# Altium integrated library TI Power Management Lighting and Display.IntLib: 745 symbols (part 46 of 48)
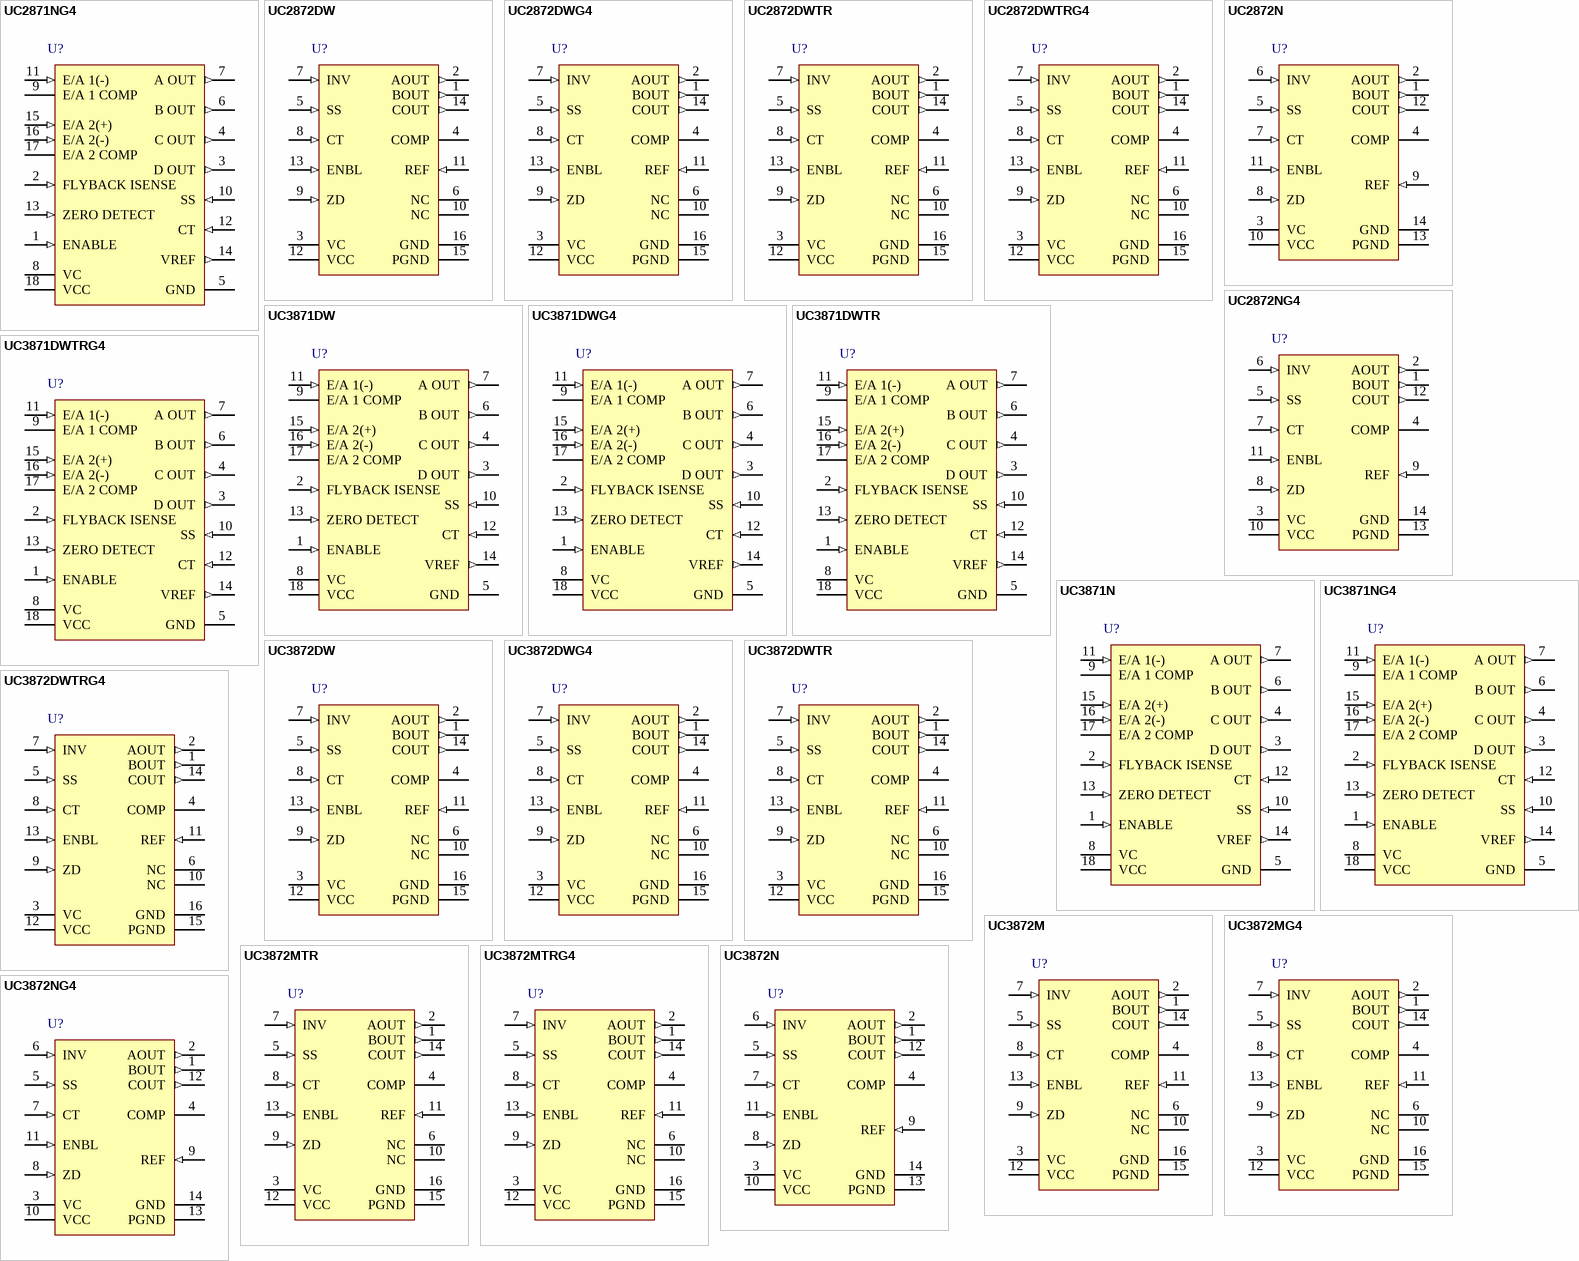
[diagram p76: symbols UC2871NG4 to UC3872NG4]

## UC3872M
designator U?
Resonant Lamp Ballast Controller, 4.5 to 24 V, 0 to 70 degC, 16-pin SOP (DBQ16), Green (RoHS & no Sb/Br); Manufacturer: Texas Instruments; PartNumber: UC3872M; Control Topology: Push-Pull; Frequency(Max)(kHz): 200; Open Lamp Detect: TRUE; Rating: Catalog; SubFamily: CCFL Backlight Converter; Vin(Max)(V): 24; Vin(Min)(V): 4.5; PackageVersion: 4073301-2/H; PackageReference: DBQ16; PackageDescription: 16-Lead, Plastic Small Outline, Body Size 3.9 x 4.9 mm, Pitch 0.635 mm; Supplier 1: Digi-Key; Supplier Part Number 1: 296-11329-5-ND; Supplier 2: Newark; Supplier Part Number 2: 77C3421; Supplier 3: Mouser; Supplier Part Number 3: 595-UC3872M; Eco-Plan: Green (RoHS & no Sb/Br); Mounting Technology: Surface Mount; Code_JEDEC: MO-137; ComponentLink1Description: Manufacturer URL; ComponentLink1URL: http://www.ti.com/; ComponentLink2Description: Datasheet; ComponentLink2URL: http://www.ti.com/general/docs/lit/getliterature.tsp?genericPartNumber=UC3872&fileType=pdf; ComponentLink3Description: Package Specification; ComponentLink3URL: http://www.ti.com/litv/pdf/msoi004g
footprint TI-DBQ16_N (SOP, 16-Leads, Body 4.9x3.9mm, Pitch 0.635mm, IPC Medium Density)
footprint TI-DBQ16_L (SOP, 16-Leads, Body 4.9x3.9mm, Pitch 0.635mm, IPC High Density)
footprint TI-DBQ16_M (SOP, 16-Leads, Body 4.9x3.9mm, Pitch 0.635mm, IPC Low Density)
pins: 1 BOUT (out) "These outputs provide complementary drive signals for the push-pull N-channel MOSFETs.Each one is high for 50% of the time, switching states each time a zero-detect is sensed.", 2 AOUT (out) "These outputs provide complementary drive signals for the push-pull N-channel MOSFETs.Each one is high for 50% of the time, switching states each time a zero-detect is sensed.", 3 VC (power) "VC is the power supply voltage connection for the output drivers. Bypass it to ground with a 0.1uF ceramic capacitor for proper operation.", 4 COMP "COMP is the output terminal of the error amplifier. Compensation components are normally connected between COMP and INV. Connecting a capacitor from this pin to ground limits turn on current and blanks the open lamp detect (See Datasheet)", 5 SS (in), 6 NC, 7 INV (in) "This pin is the inverting input to the error amplifier and the input for the open lamp detect circuitry. If the voltage at INV is below the 1V open lamp detect threshold,the outputs are disabled.", 8 CT (in) "A capacitor connected between this pin and GND ground sets the synchronization frequency range. The capacitor is charged with approximately 200uA, creating a linear ramp which is used by COUT’s (buck regulator driver) PWM (See Datasheet)", 9 ZD (in) "The zero-detect input senses when the transformer’s primary center tap voltage falls to zero to synchronize the sawtooth voltage waveform on CT. The threshold is approximately 0.5V, providing a small amount of offset such (See Datasheet)", 10 NC, 11 REF (in) "This pin is connected to the 3V reference voltage which is used for the internal logic. Bypass REF to ground with a 0.01uF ceramic capacitor for proper operation.", 12 VCC (power) "VCC is the positive supply voltage for the chip. Its operating range is from 4.2V to 24V. Bypass VCC to ground with a 0.1uF ceramic capacitor for proper operation.", 13 ENBL (in) "When ENBL is driven high the device is enabled.When ENBL is pulled low, the IC is shut down and typically draws 1uA.", 14 COUT (out) "This output directly drives the bulk regulator P-channel MOSFET. COUT turn-on is synchronized to each zero-detect, and therefore switches at twice the frequency of AOUT and BOUT. The modulator controlling COUT is designed to (See Datasheet)", 15 PGND (power) "This pin is the high current ground connection for the three output drivers.", 16 GND (power) "This pin is the ground reference point for the internal reference and all thresholds."

## UC3872MG4
designator U?
Resonant Lamp Ballast Controller, 4.5 to 24 V, 0 to 70 degC, 16-pin SOP (DBQ16), Green (RoHS & no Sb/Br); Manufacturer: Texas Instruments; PartNumber: UC3872MG4; Control Topology: Push-Pull; Frequency(Max)(kHz): 200; Open Lamp Detect: TRUE; Rating: Catalog; SubFamily: CCFL Backlight Converter; Vin(Max)(V): 24; Vin(Min)(V): 4.5; PackageVersion: 4073301-2/H; PackageReference: DBQ16; PackageDescription: 16-Lead, Plastic Small Outline, Body Size 3.9 x 4.9 mm, Pitch 0.635 mm; Supplier 1: Digi-Key; Supplier Part Number 1: UC3872MG4-ND; Supplier 2: Newark; Supplier Part Number 2: 28M7875; Supplier 3: Mouser; Supplier Part Number 3: 595-UC3872MG4; Eco-Plan: Green (RoHS & no Sb/Br); Mounting Technology: Surface Mount; Code_JEDEC: MO-137; ComponentLink1Description: Manufacturer URL; ComponentLink1URL: http://www.ti.com/; ComponentLink2Description: Datasheet; ComponentLink2URL: http://www.ti.com/general/docs/lit/getliterature.tsp?genericPartNumber=UC3872&fileType=pdf; ComponentLink3Description: Package Specification; ComponentLink3URL: http://www.ti.com/litv/pdf/msoi004g
footprint TI-DBQ16_N (SOP, 16-Leads, Body 4.9x3.9mm, Pitch 0.635mm, IPC Medium Density)
footprint TI-DBQ16_L (SOP, 16-Leads, Body 4.9x3.9mm, Pitch 0.635mm, IPC High Density)
footprint TI-DBQ16_M (SOP, 16-Leads, Body 4.9x3.9mm, Pitch 0.635mm, IPC Low Density)
pins: 1 BOUT (out) "These outputs provide complementary drive signals for the push-pull N-channel MOSFETs.Each one is high for 50% of the time, switching states each time a zero-detect is sensed.", 2 AOUT (out) "These outputs provide complementary drive signals for the push-pull N-channel MOSFETs.Each one is high for 50% of the time, switching states each time a zero-detect is sensed.", 3 VC (power) "VC is the power supply voltage connection for the output drivers. Bypass it to ground with a 0.1uF ceramic capacitor for proper operation.", 4 COMP "COMP is the output terminal of the error amplifier. Compensation components are normally connected between COMP and INV. Connecting a capacitor from this pin to ground limits turn on current and blanks the open lamp detect (See Datasheet)", 5 SS (in), 6 NC, 7 INV (in) "This pin is the inverting input to the error amplifier and the input for the open lamp detect circuitry. If the voltage at INV is below the 1V open lamp detect threshold,the outputs are disabled.", 8 CT (in) "A capacitor connected between this pin and GND ground sets the synchronization frequency range. The capacitor is charged with approximately 200uA, creating a linear ramp which is used by COUT’s (buck regulator driver) PWM (See Datasheet)", 9 ZD (in) "The zero-detect input senses when the transformer’s primary center tap voltage falls to zero to synchronize the sawtooth voltage waveform on CT. The threshold is approximately 0.5V, providing a small amount of offset such (See Datasheet)", 10 NC, 11 REF (in) "This pin is connected to the 3V reference voltage which is used for the internal logic. Bypass REF to ground with a 0.01uF ceramic capacitor for proper operation.", 12 VCC (power) "VCC is the positive supply voltage for the chip. Its operating range is from 4.2V to 24V. Bypass VCC to ground with a 0.1uF ceramic capacitor for proper operation.", 13 ENBL (in) "When ENBL is driven high the device is enabled.When ENBL is pulled low, the IC is shut down and typically draws 1uA.", 14 COUT (out) "This output directly drives the bulk regulator P-channel MOSFET. COUT turn-on is synchronized to each zero-detect, and therefore switches at twice the frequency of AOUT and BOUT. The modulator controlling COUT is designed to (See Datasheet)", 15 PGND (power) "This pin is the high current ground connection for the three output drivers.", 16 GND (power) "This pin is the ground reference point for the internal reference and all thresholds."

## UC3872MTR
designator U?
Resonant Lamp Ballast Controller, 4.5 to 24 V, 0 to 70 degC, 16-pin SOP (DBQ16), Green (RoHS & no Sb/Br); Manufacturer: Texas Instruments; PartNumber: UC3872MTR; Control Topology: Push-Pull; Frequency(Max)(kHz): 200; Open Lamp Detect: TRUE; Rating: Catalog; SubFamily: CCFL Backlight Converter; Vin(Max)(V): 24; Vin(Min)(V): 4.5; PackageVersion: 4073301-2/H; PackageReference: DBQ16; PackageDescription: 16-Lead, Plastic Small Outline, Body Size 3.9 x 4.9 mm, Pitch 0.635 mm; Supplier 1: Digi-Key; Supplier Part Number 1: UC3872MTR-ND; Supplier 2: Newark; Supplier Part Number 2: 77C3422; Supplier 3: Mouser; Supplier Part Number 3: 595-UC3872MTR; Eco-Plan: Green (RoHS & no Sb/Br); Mounting Technology: Surface Mount; Code_JEDEC: MO-137; ComponentLink1Description: Manufacturer URL; ComponentLink1URL: http://www.ti.com/; ComponentLink2Description: Datasheet; ComponentLink2URL: http://www.ti.com/general/docs/lit/getliterature.tsp?genericPartNumber=UC3872&fileType=pdf; ComponentLink3Description: Package Specification; ComponentLink3URL: http://www.ti.com/litv/pdf/msoi004g
footprint TI-DBQ16_N (SOP, 16-Leads, Body 4.9x3.9mm, Pitch 0.635mm, IPC Medium Density)
footprint TI-DBQ16_L (SOP, 16-Leads, Body 4.9x3.9mm, Pitch 0.635mm, IPC High Density)
footprint TI-DBQ16_M (SOP, 16-Leads, Body 4.9x3.9mm, Pitch 0.635mm, IPC Low Density)
pins: 1 BOUT (out) "These outputs provide complementary drive signals for the push-pull N-channel MOSFETs.Each one is high for 50% of the time, switching states each time a zero-detect is sensed.", 2 AOUT (out) "These outputs provide complementary drive signals for the push-pull N-channel MOSFETs.Each one is high for 50% of the time, switching states each time a zero-detect is sensed.", 3 VC (power) "VC is the power supply voltage connection for the output drivers. Bypass it to ground with a 0.1uF ceramic capacitor for proper operation.", 4 COMP "COMP is the output terminal of the error amplifier. Compensation components are normally connected between COMP and INV. Connecting a capacitor from this pin to ground limits turn on current and blanks the open lamp detect (See Datasheet)", 5 SS (in), 6 NC, 7 INV (in) "This pin is the inverting input to the error amplifier and the input for the open lamp detect circuitry. If the voltage at INV is below the 1V open lamp detect threshold,the outputs are disabled.", 8 CT (in) "A capacitor connected between this pin and GND ground sets the synchronization frequency range. The capacitor is charged with approximately 200uA, creating a linear ramp which is used by COUT’s (buck regulator driver) PWM (See Datasheet)", 9 ZD (in) "The zero-detect input senses when the transformer’s primary center tap voltage falls to zero to synchronize the sawtooth voltage waveform on CT. The threshold is approximately 0.5V, providing a small amount of offset such (See Datasheet)", 10 NC, 11 REF (in) "This pin is connected to the 3V reference voltage which is used for the internal logic. Bypass REF to ground with a 0.01uF ceramic capacitor for proper operation.", 12 VCC (power) "VCC is the positive supply voltage for the chip. Its operating range is from 4.2V to 24V. Bypass VCC to ground with a 0.1uF ceramic capacitor for proper operation.", 13 ENBL (in) "When ENBL is driven high the device is enabled.When ENBL is pulled low, the IC is shut down and typically draws 1uA.", 14 COUT (out) "This output directly drives the bulk regulator P-channel MOSFET. COUT turn-on is synchronized to each zero-detect, and therefore switches at twice the frequency of AOUT and BOUT. The modulator controlling COUT is designed to (See Datasheet)", 15 PGND (power) "This pin is the high current ground connection for the three output drivers.", 16 GND (power) "This pin is the ground reference point for the internal reference and all thresholds."

## UC3872MTRG4
designator U?
Resonant Lamp Ballast Controller, 4.5 to 24 V, 0 to 70 degC, 16-pin SOP (DBQ16), Green (RoHS & no Sb/Br); Manufacturer: Texas Instruments; PartNumber: UC3872MTRG4; Control Topology: Push-Pull; Frequency(Max)(kHz): 200; Open Lamp Detect: TRUE; Rating: Catalog; SubFamily: CCFL Backlight Converter; Vin(Max)(V): 24; Vin(Min)(V): 4.5; PackageVersion: 4073301-2/H; PackageReference: DBQ16; PackageDescription: 16-Lead, Plastic Small Outline, Body Size 3.9 x 4.9 mm, Pitch 0.635 mm; Supplier 1: Digi-Key; Supplier Part Number 1: UC3872MTRG4-ND; Supplier 2: Newark; Supplier Part Number 2: 63K6761; Supplier 3: Mouser; Supplier Part Number 3: 595-UC3872MTRG4; Eco-Plan: Green (RoHS & no Sb/Br); Mounting Technology: Surface Mount; Code_JEDEC: MO-137; ComponentLink1Description: Manufacturer URL; ComponentLink1URL: http://www.ti.com/; ComponentLink2Description: Datasheet; ComponentLink2URL: http://www.ti.com/general/docs/lit/getliterature.tsp?genericPartNumber=UC3872&fileType=pdf; ComponentLink3Description: Package Specification; ComponentLink3URL: http://www.ti.com/litv/pdf/msoi004g
footprint TI-DBQ16_N (SOP, 16-Leads, Body 4.9x3.9mm, Pitch 0.635mm, IPC Medium Density)
footprint TI-DBQ16_L (SOP, 16-Leads, Body 4.9x3.9mm, Pitch 0.635mm, IPC High Density)
footprint TI-DBQ16_M (SOP, 16-Leads, Body 4.9x3.9mm, Pitch 0.635mm, IPC Low Density)
pins: 1 BOUT (out) "These outputs provide complementary drive signals for the push-pull N-channel MOSFETs.Each one is high for 50% of the time, switching states each time a zero-detect is sensed.", 2 AOUT (out) "These outputs provide complementary drive signals for the push-pull N-channel MOSFETs.Each one is high for 50% of the time, switching states each time a zero-detect is sensed.", 3 VC (power) "VC is the power supply voltage connection for the output drivers. Bypass it to ground with a 0.1uF ceramic capacitor for proper operation.", 4 COMP "COMP is the output terminal of the error amplifier. Compensation components are normally connected between COMP and INV. Connecting a capacitor from this pin to ground limits turn on current and blanks the open lamp detect (See Datasheet)", 5 SS (in), 6 NC, 7 INV (in) "This pin is the inverting input to the error amplifier and the input for the open lamp detect circuitry. If the voltage at INV is below the 1V open lamp detect threshold,the outputs are disabled.", 8 CT (in) "A capacitor connected between this pin and GND ground sets the synchronization frequency range. The capacitor is charged with approximately 200uA, creating a linear ramp which is used by COUT’s (buck regulator driver) PWM (See Datasheet)", 9 ZD (in) "The zero-detect input senses when the transformer’s primary center tap voltage falls to zero to synchronize the sawtooth voltage waveform on CT. The threshold is approximately 0.5V, providing a small amount of offset such (See Datasheet)", 10 NC, 11 REF (in) "This pin is connected to the 3V reference voltage which is used for the internal logic. Bypass REF to ground with a 0.01uF ceramic capacitor for proper operation.", 12 VCC (power) "VCC is the positive supply voltage for the chip. Its operating range is from 4.2V to 24V. Bypass VCC to ground with a 0.1uF ceramic capacitor for proper operation.", 13 ENBL (in) "When ENBL is driven high the device is enabled.When ENBL is pulled low, the IC is shut down and typically draws 1uA.", 14 COUT (out) "This output directly drives the bulk regulator P-channel MOSFET. COUT turn-on is synchronized to each zero-detect, and therefore switches at twice the frequency of AOUT and BOUT. The modulator controlling COUT is designed to (See Datasheet)", 15 PGND (power) "This pin is the high current ground connection for the three output drivers.", 16 GND (power) "This pin is the ground reference point for the internal reference and all thresholds."

## UC3872N
designator U?
Resonant Lamp Ballast Controller, 4.5 to 24 V, 0 to 70 degC, 14-pin DIP (N14), Green (RoHS & no Sb/Br); Manufacturer: Texas Instruments; PartNumber: UC3872N; Control Topology: Push-Pull; Frequency(Max)(kHz): 200; Open Lamp Detect: TRUE; Rating: Catalog; SubFamily: CCFL Backlight Converter; Vin(Max)(V): 24; Vin(Min)(V): 4.5; PackageVersion: 4040049/E; PackageReference: N14; PackageDescription: 14-Pin Plastic In-Line, Body 19.305 x 6.35 mm, Pitch 2.54 mm; Supplier 1: Digi-Key; Supplier Part Number 1: 296-11330-5-ND; Supplier 2: Newark; Supplier Part Number 2: 77C3423; Supplier 3: Mouser; Supplier Part Number 3: 595-UC3872N; Eco-Plan: Green (RoHS & no Sb/Br); Mounting Technology: Through Hole; Code_JEDEC: MS-001; ComponentLink1Description: Manufacturer URL; ComponentLink1URL: http://www.ti.com/; ComponentLink2Description: Datasheet; ComponentLink2URL: http://www.ti.com/general/docs/lit/getliterature.tsp?genericPartNumber=UC3872&fileType=pdf; ComponentLink3Description: Package Specification; ComponentLink3URL: http://www.ti.com/lit/ml/mpdi002c/mpdi002c.pdf
footprint TI-N14 (DIP, 14-Leads, Body 19.305x6.35 mm, Pitch 2.54 mm)
pins: 1 BOUT (out) "These outputs provide complementary drive signals for the push-pull N-channel MOSFETs.Each one is high for 50% of the time, switching states each time a zero-detect is sensed.", 2 AOUT (out) "These outputs provide complementary drive signals for the push-pull N-channel MOSFETs.Each one is high for 50% of the time, switching states each time a zero-detect is sensed.", 3 VC (power) "VC is the power supply voltage connection for the output drivers. Bypass it to ground with a 0.1uF ceramic capacitor for proper operation.", 4 COMP "COMP is the output terminal of the error amplifier. Compensation components are normally connected between COMP and INV. Connecting a capacitor from this pin to ground limits turn on current and blanks the open lamp detect (See Datasheet)", 5 SS (in), 6 INV (in) "This pin is the inverting input to the error amplifier and the input for the open lamp detect circuitry. If the voltage at INV is below the 1V open lamp detect threshold,the outputs are disabled.", 7 CT (in) "A capacitor connected between this pin and GND ground sets the synchronization frequency range. The capacitor is charged with approximately 200uA, creating a linear ramp which is used by COUT’s (buck regulator driver) PWM (See Datasheet)", 8 ZD (in) "The zero-detect input senses when the transformer’s primary center tap voltage falls to zero to synchronize the sawtooth voltage waveform on CT. The threshold is approximately 0.5V, providing a small amount of offset such (See Datasheet)", 9 REF (in) "This pin is connected to the 3V reference voltage which is used for the internal logic. Bypass REF to ground with a 0.01uF ceramic capacitor for proper operation.", 10 VCC (power) "VCC is the positive supply voltage for the chip. Its operating range is from 4.2V to 24V. Bypass VCC to ground with a 0.1uF ceramic capacitor for proper operation.", 11 ENBL (in) "When ENBL is driven high the device is enabled.When ENBL is pulled low, the IC is shut down and typically draws 1uA.", 12 COUT (out) "This output directly drives the bulk regulator P-channel MOSFET. COUT turn-on is synchronized to each zero-detect, and therefore switches at twice the frequency of AOUT and BOUT. The modulator controlling COUT is designed to (See Datasheet)", 13 PGND (power) "This pin is the high current ground connection for the three output drivers.", 14 GND (power) "This pin is the ground reference point for the internal reference and all thresholds."

## UC3872NG4
designator U?
Resonant Lamp Ballast Controller, 4.5 to 24 V, 0 to 70 degC, 14-pin DIP (N14), Green (RoHS & no Sb/Br); Manufacturer: Texas Instruments; PartNumber: UC3872NG4; Control Topology: Push-Pull; Frequency(Max)(kHz): 200; Open Lamp Detect: TRUE; Rating: Catalog; SubFamily: CCFL Backlight Converter; Vin(Max)(V): 24; Vin(Min)(V): 4.5; PackageVersion: 4040049/E; PackageReference: N14; PackageDescription: 14-Pin Plastic In-Line, Body 19.305 x 6.35 mm, Pitch 2.54 mm; Supplier 1: Digi-Key; Supplier Part Number 1: UC3872NG4-ND; Supplier 2: Newark; Supplier Part Number 2: 61K2006; Supplier 3: Mouser; Supplier Part Number 3: 595-UC3872NG4; Eco-Plan: Green (RoHS & no Sb/Br); Mounting Technology: Through Hole; Code_JEDEC: MS-001; ComponentLink1Description: Manufacturer URL; ComponentLink1URL: http://www.ti.com/; ComponentLink2Description: Datasheet; ComponentLink2URL: http://www.ti.com/general/docs/lit/getliterature.tsp?genericPartNumber=UC3872&fileType=pdf; ComponentLink3Description: Package Specification; ComponentLink3URL: http://www.ti.com/lit/ml/mpdi002c/mpdi002c.pdf
footprint TI-N14 (DIP, 14-Leads, Body 19.305x6.35 mm, Pitch 2.54 mm)
pins: 1 BOUT (out) "These outputs provide complementary drive signals for the push-pull N-channel MOSFETs.Each one is high for 50% of the time, switching states each time a zero-detect is sensed.", 2 AOUT (out) "These outputs provide complementary drive signals for the push-pull N-channel MOSFETs.Each one is high for 50% of the time, switching states each time a zero-detect is sensed.", 3 VC (power) "VC is the power supply voltage connection for the output drivers. Bypass it to ground with a 0.1uF ceramic capacitor for proper operation.", 4 COMP "COMP is the output terminal of the error amplifier. Compensation components are normally connected between COMP and INV. Connecting a capacitor from this pin to ground limits turn on current and blanks the open lamp detect (See Datasheet)", 5 SS (in), 6 INV (in) "This pin is the inverting input to the error amplifier and the input for the open lamp detect circuitry. If the voltage at INV is below the 1V open lamp detect threshold,the outputs are disabled.", 7 CT (in) "A capacitor connected between this pin and GND ground sets the synchronization frequency range. The capacitor is charged with approximately 200uA, creating a linear ramp which is used by COUT’s (buck regulator driver) PWM (See Datasheet)", 8 ZD (in) "The zero-detect input senses when the transformer’s primary center tap voltage falls to zero to synchronize the sawtooth voltage waveform on CT. The threshold is approximately 0.5V, providing a small amount of offset such (See Datasheet)", 9 REF (in) "This pin is connected to the 3V reference voltage which is used for the internal logic. Bypass REF to ground with a 0.01uF ceramic capacitor for proper operation.", 10 VCC (power) "VCC is the positive supply voltage for the chip. Its operating range is from 4.2V to 24V. Bypass VCC to ground with a 0.1uF ceramic capacitor for proper operation.", 11 ENBL (in) "When ENBL is driven high the device is enabled.When ENBL is pulled low, the IC is shut down and typically draws 1uA.", 12 COUT (out) "This output directly drives the bulk regulator P-channel MOSFET. COUT turn-on is synchronized to each zero-detect, and therefore switches at twice the frequency of AOUT and BOUT. The modulator controlling COUT is designed to (See Datasheet)", 13 PGND (power) "This pin is the high current ground connection for the three output drivers.", 14 GND (power) "This pin is the ground reference point for the internal reference and all thresholds."

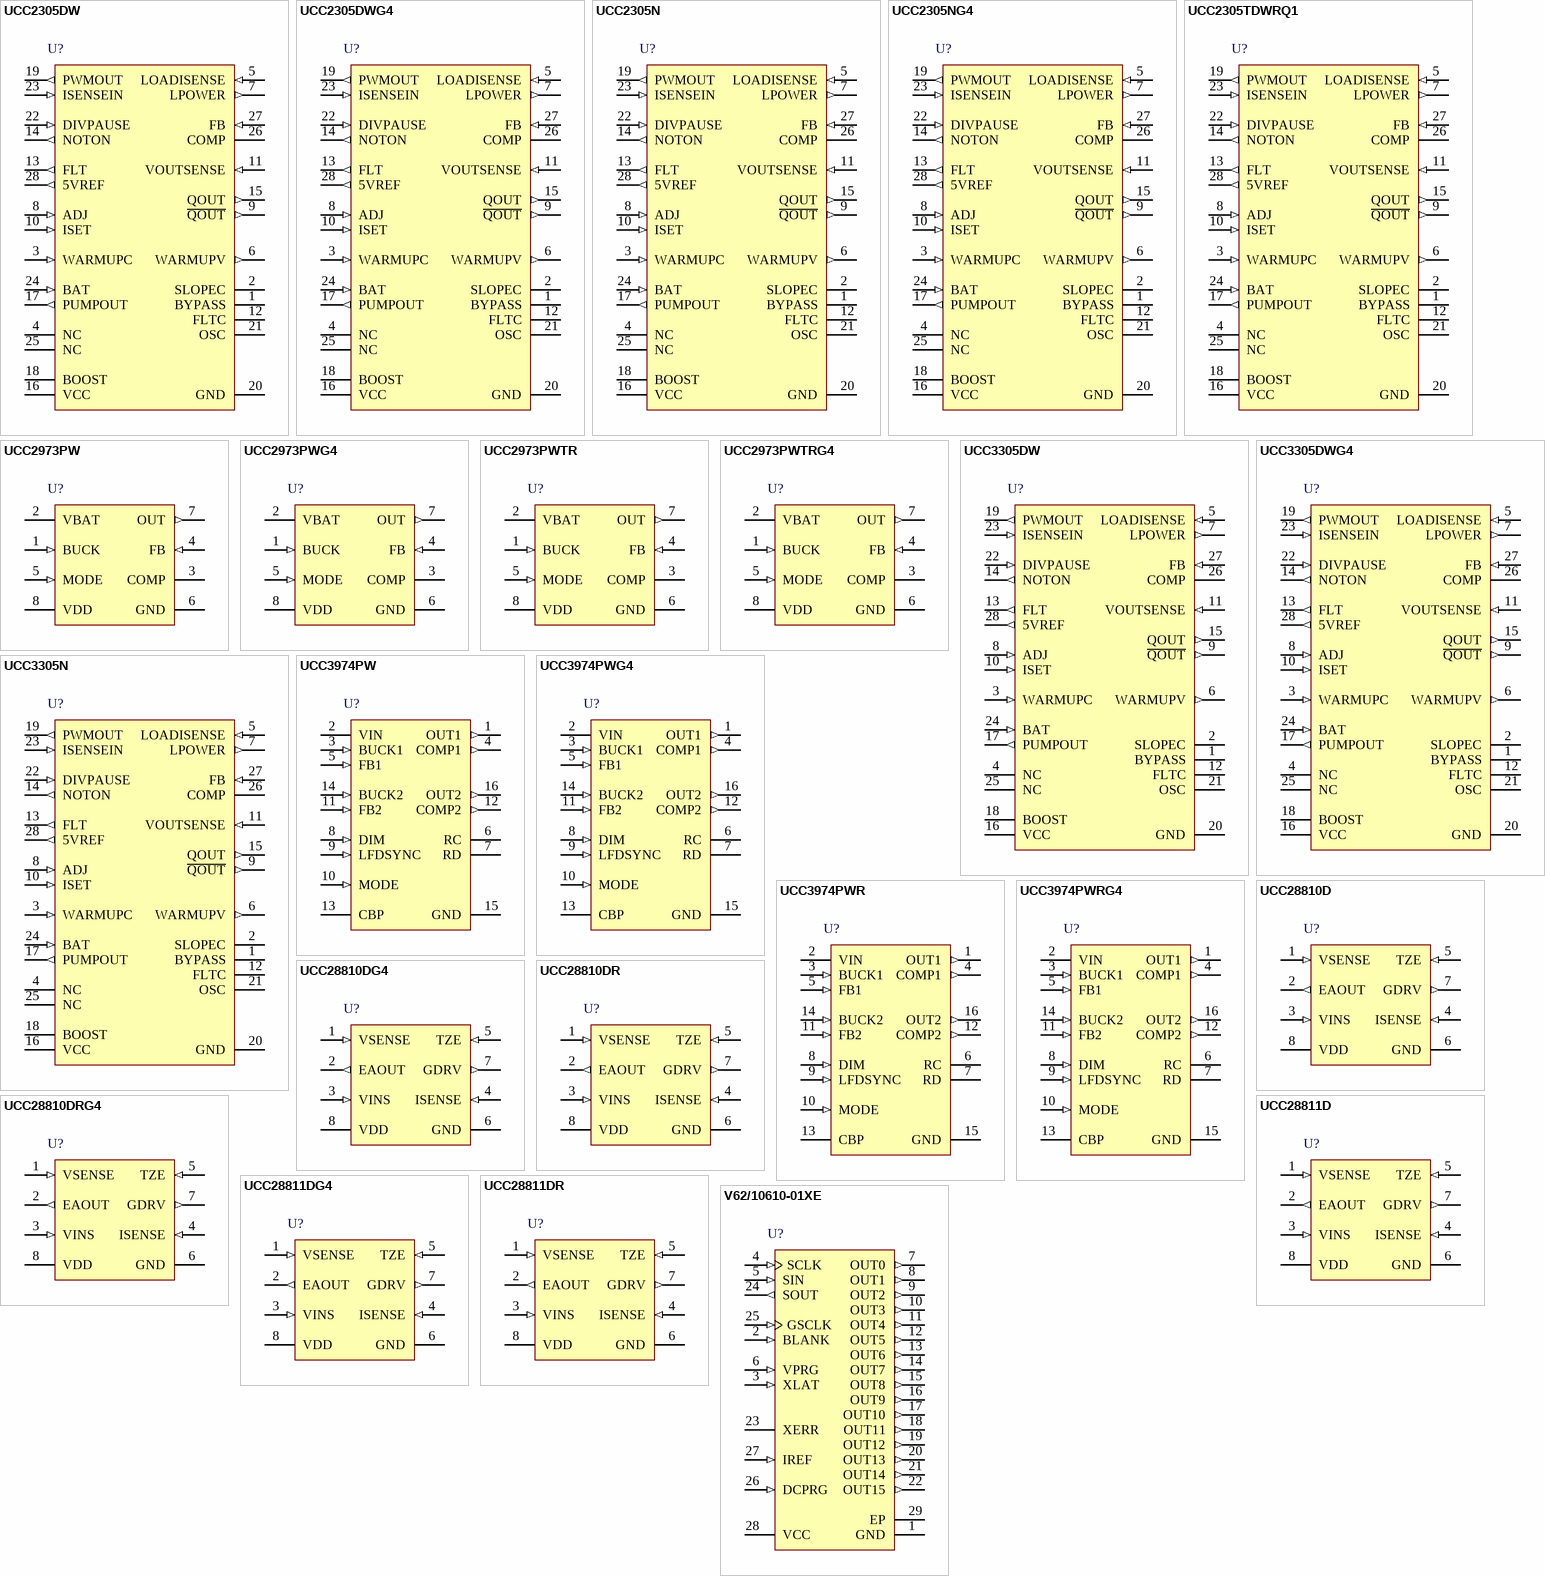
[diagram p30: symbols UCC2305DW to V62/10610-01XE]

## UCC2305DW
designator U?
HID Lamp Controller, 5 to 18 V, -40 to 85 degC, 28-pin SOIC (DW28), Green (RoHS & no Sb/Br); Manufacturer: Texas Instruments; PartNumber: UCC2305DW; Control Topology: Boost, Flyback; Frequency(Max)(kHz): 200; Open Lamp Detect: TRUE; Rating: Catalog; Vin(Max)(V): 18; Vin(Min)(V): 5; DatasheetVersion: SLUS297B; PackageVersion: 4040000-6/G; PackageReference: DW28; PackageDescription: 28-Pin Plastic Small Outline, Body 17.90 x 7.50 mm, Pitch 1.27 mm; Supplier 1: Digi-Key; Supplier Part Number 1: 296-13023-5-ND; Supplier 2: Newark; Supplier Part Number 2: 77C1909; Supplier 3: Mouser; Supplier Part Number 3: 595-UCC2305DW; Eco-Plan: Green (RoHS & no Sb/Br); SubFamily: HID Lamp Controller; Mounting Technology: Surface Mount; Code_JEDEC: MS-013; ComponentLink1Description: Manufacturer URL; ComponentLink1URL: http://www.ti.com/; ComponentLink2Description: Datasheet; ComponentLink2URL: http://www.ti.com/general/docs/lit/getliterature.tsp?genericPartNumber=UCC2305&fileType=pdf; ComponentLink3Description: Package Specification; ComponentLink3URL: http://www.ti.com/lit/ml/mpds175a/mpds175a.pdf
footprint TI-DW28_N (SOIC, 28-Leads, Body 17.9x7.5mm, Pitch 1.27mm, IPC Medium Density)
footprint TI-DW28_L (SOIC, 28-Leads, Body 17.9x7.5mm, Pitch 1.27mm, IPC High Density)
footprint TI-DW28_M (SOIC, 28-Leads, Body 17.9x7.5mm, Pitch 1.27mm, IPC Low Density)
pins: 1 BYPASS "The UCC3305 compensates for lamp temperature changes by changing the voltage on the SLOPEC and WARMUPC capacitors. These voltages rise as the lamp warms up. An internal calculation determines what power should be applied to (See Datasheet)", 2 SLOPEC "To track lamp warm-up and cool down, two capacitors connected to the UCC3305 charge and discharge.One is connected to SLOPEC. The other is connected to WARMUPC. The capacitor connected to SLOPEC charges up to 5V with a rate (See Datasheet)", 3 WARMUPC (in) "In addition to the capacitor from SLOPEC to GND, lamp temperature is estimated by the voltage on a capacitor from WARMUPC to GND. This capacitor is charged by a 200nA current source to 4.2V and by a 100nA current source from (See Datasheet)", 4 NC, 5 LOADISENSE (in) "Just as ISENSEIN is normally connected to a current sense resistor which monitors battery current, LOADISENSE is normally connected to a resistor which monitors lamp current. Lamp current is then regulated by the controller (See Datasheet)", 6 WARMUPV (out) "The voltage on WARMUPC is used to modulate the signal fed to the error amplifier through FB. However, the impedance on WARMUPC is too high to be directly used. The UCC3305 contains a buffer amplifier which buffers the (See Datasheet)", 7 LPOWER (out) "LOADISENSE directly drives one input of an op amp in the UCC3305. This amplifier amplifies the difference between the desired load current and the actual load current, and generates an output signal on LPOWER which feeds the (See Datasheet)", 8 ADJ (in) "The ratio of cold lamp peak current to warmed-up lamp peak current is controlled by the voltage on ADJ. To select this voltage, connect a resistor from ADJ to GND.", 9 ~{QOUT} (out) "The UCC3305 is immediately configured for DC HID lamps. To operate with AC HID lamps, it is necessary to add a power H-bridge which will toggle lamp voltage. A practical switching frequency for this toggle function is the (See Datasheet)", 10 ISET (in) "Many functions inside the UCC3305 require precise currents to give well controlled performance. These controlled currents are programmed by a resistor from  ISET to GND. A resistor of 100k programs the IC to normal operating (See Datasheet)", 11 VOUTSENSE (in) "The VOUTSENSE input is used to sense lamp voltage, commonly through a 120:1 voltage divider. For a normal, running HID lamp, the voltage across the lamp is between 60V and 110V. It takes higher than 300V to break down the (See Datasheet)", 12 FLTC "The voltage on VOUTSENSE is proportional to lamp voltage. If that voltage is too high or too low, the lamp is either open, shorted, or not yet running. During normal operation, there is a capacitor connected to FLTC, and (See Datasheet)", 13 FLT (out) "If the voltage on the FLTC pin exceeds 5V, indicating a severe fault, then a latch in the UCC3305 sets and PWM drive is halted. In addition, the FLT output goes high to VCC, indicating a serious system fault.", 14 NOTON (out) "While the lamp is in a fault condition, such as excessively high or low lamp voltage, NOTON is pulled high to VCC, indicating that the arc is not yet correct. When the voltage on VOUTSENSE is within the 83mV to 2V window, (See Datasheet)", 15 QOUT (out) "The QOUT pin is a logic output which toggles at the OSC frequency divided by 512, 180 degrees out of phase with the Q\O\U\T\ pin.", 16 VCC (power) "Supply Voltage", 17 PUMPOUT (out) "Although the UCC3305 is powered from the VCC input, most functions of the device operate from a supply voltage of approximately 10V connected to BOOST. In normal operation, this 10V supply is generated by a voltage doubler (See Datasheet)", 18 BOOST (power) "Although the UCC3305 is powered from the VCC input, most functions of the device operate from a supply voltage of approximately 10V connected to BOOST. This 10V supply can be generated by a voltage doubler using PUMPOUT as (See Datasheet)", 19 PWMOUT (out) "The output of the pulse width modulator is a command signal to a power MOSFET switch. This signal appears on PWMOUT. In normal systems,PWM-OUT can be directly connected to the gate of an N-channel power MOSFET such as the (See Datasheet)", 20 GND (power) "Ground for all functions is through this pin.", 21 OSC "The fixed frequency PWM in the UCC3305 operates at the frequency programmed by the OSC pin.Typically, a a 200pF capacitor from OSC to GND programs the PWM frequency at 100kHz. In addition, this programs the charge pump at (See Datasheet)", 22 DIVPAUSE (in) "The QOUT and Q\O\U\T\ outputs can be used to switch lamp polarity in an AC ballast. It is important to stop polarity switching when the lamp is being lit, so that the arc across the electrodes can form in the correct place. (See Datasheet)", 23 ISENSEIN (in) "The power regulating algorithm in the UCC3305 HID Controller computes a function of lamp current and lamp voltage and commands the appropriate battery current to keep lamp power constant. This appropriate battery current is (See Datasheet)", 24 BAT (in) "This input is used to detect excessively high input voltage and shut down the IC if the input exceeds a predetermined level. Connect BAT to a voltage divider across the input supply. The UCC3305 shuts down when this input (See Datasheet)", 25 NC, 26 COMP "Differences between commanded lamp power and desired lamp power are amplified by an error amplifier.This amplifier senses the difference between the voltage at FB and 2.5V, and drives COMP with an amplified error voltage. A (See Datasheet)", 27 FB (in) "Differences between commanded lamp power and desired lamp power are amplified by an error amplifier.This amplifier senses the difference between the voltage at FB and 2.5V, and drives COMP with an amplified error voltage.", 28 5VREF (out) "Circuitry in the UCC3305 uses the internal 5V reference to set currents and thresholds. This reference can also be used for other functions if required."

## UCC2305DWG4
designator U?
HID Lamp Controller, 5 to 18 V, -40 to 85 degC, 28-pin SOIC (DW28), Green (RoHS & no Sb/Br); Manufacturer: Texas Instruments; PartNumber: UCC2305DWG4; Control Topology: Boost, Flyback; Frequency(Max)(kHz): 200; Open Lamp Detect: TRUE; Rating: Catalog; Vin(Max)(V): 18; Vin(Min)(V): 5; DatasheetVersion: SLUS297B; PackageVersion: 4040000-6/G; PackageReference: DW28; PackageDescription: 28-Pin Plastic Small Outline, Body 17.90 x 7.50 mm, Pitch 1.27 mm; Supplier 1: Digi-Key; Supplier Part Number 1: UCC2305DWG4-ND; Supplier 2: Newark; Supplier Part Number 2: 54K1953; Supplier 3: Mouser; Supplier Part Number 3: 595-UCC2305DWG4; Eco-Plan: Green (RoHS & no Sb/Br); SubFamily: HID Lamp Controller; Mounting Technology: Surface Mount; Code_JEDEC: MS-013; ComponentLink1Description: Manufacturer URL; ComponentLink1URL: http://www.ti.com/; ComponentLink2Description: Datasheet; ComponentLink2URL: http://www.ti.com/general/docs/lit/getliterature.tsp?genericPartNumber=UCC2305&fileType=pdf; ComponentLink3Description: Package Specification; ComponentLink3URL: http://www.ti.com/lit/ml/mpds175a/mpds175a.pdf
footprint TI-DW28_N (SOIC, 28-Leads, Body 17.9x7.5mm, Pitch 1.27mm, IPC Medium Density)
footprint TI-DW28_L (SOIC, 28-Leads, Body 17.9x7.5mm, Pitch 1.27mm, IPC High Density)
footprint TI-DW28_M (SOIC, 28-Leads, Body 17.9x7.5mm, Pitch 1.27mm, IPC Low Density)
pins: 1 BYPASS "The UCC3305 compensates for lamp temperature changes by changing the voltage on the SLOPEC and WARMUPC capacitors. These voltages rise as the lamp warms up. An internal calculation determines what power should be applied to (See Datasheet)", 2 SLOPEC "To track lamp warm-up and cool down, two capacitors connected to the UCC3305 charge and discharge.One is connected to SLOPEC. The other is connected to WARMUPC. The capacitor connected to SLOPEC charges up to 5V with a rate (See Datasheet)", 3 WARMUPC (in) "In addition to the capacitor from SLOPEC to GND, lamp temperature is estimated by the voltage on a capacitor from WARMUPC to GND. This capacitor is charged by a 200nA current source to 4.2V and by a 100nA current source from (See Datasheet)", 4 NC, 5 LOADISENSE (in) "Just as ISENSEIN is normally connected to a current sense resistor which monitors battery current, LOADISENSE is normally connected to a resistor which monitors lamp current. Lamp current is then regulated by the controller (See Datasheet)", 6 WARMUPV (out) "The voltage on WARMUPC is used to modulate the signal fed to the error amplifier through FB. However, the impedance on WARMUPC is too high to be directly used. The UCC3305 contains a buffer amplifier which buffers the (See Datasheet)", 7 LPOWER (out) "LOADISENSE directly drives one input of an op amp in the UCC3305. This amplifier amplifies the difference between the desired load current and the actual load current, and generates an output signal on LPOWER which feeds the (See Datasheet)", 8 ADJ (in) "The ratio of cold lamp peak current to warmed-up lamp peak current is controlled by the voltage on ADJ. To select this voltage, connect a resistor from ADJ to GND.", 9 ~{QOUT} (out) "The UCC3305 is immediately configured for DC HID lamps. To operate with AC HID lamps, it is necessary to add a power H-bridge which will toggle lamp voltage. A practical switching frequency for this toggle function is the (See Datasheet)", 10 ISET (in) "Many functions inside the UCC3305 require precise currents to give well controlled performance. These controlled currents are programmed by a resistor from  ISET to GND. A resistor of 100k programs the IC to normal operating (See Datasheet)", 11 VOUTSENSE (in) "The VOUTSENSE input is used to sense lamp voltage, commonly through a 120:1 voltage divider. For a normal, running HID lamp, the voltage across the lamp is between 60V and 110V. It takes higher than 300V to break down the (See Datasheet)", 12 FLTC "The voltage on VOUTSENSE is proportional to lamp voltage. If that voltage is too high or too low, the lamp is either open, shorted, or not yet running. During normal operation, there is a capacitor connected to FLTC, and (See Datasheet)", 13 FLT (out) "If the voltage on the FLTC pin exceeds 5V, indicating a severe fault, then a latch in the UCC3305 sets and PWM drive is halted. In addition, the FLT output goes high to VCC, indicating a serious system fault.", 14 NOTON (out) "While the lamp is in a fault condition, such as excessively high or low lamp voltage, NOTON is pulled high to VCC, indicating that the arc is not yet correct. When the voltage on VOUTSENSE is within the 83mV to 2V window, (See Datasheet)", 15 QOUT (out) "The QOUT pin is a logic output which toggles at the OSC frequency divided by 512, 180 degrees out of phase with the Q\O\U\T\ pin.", 16 VCC (power) "Supply Voltage", 17 PUMPOUT (out) "Although the UCC3305 is powered from the VCC input, most functions of the device operate from a supply voltage of approximately 10V connected to BOOST. In normal operation, this 10V supply is generated by a voltage doubler (See Datasheet)", 18 BOOST (power) "Although the UCC3305 is powered from the VCC input, most functions of the device operate from a supply voltage of approximately 10V connected to BOOST. This 10V supply can be generated by a voltage doubler using PUMPOUT as (See Datasheet)", 19 PWMOUT (out) "The output of the pulse width modulator is a command signal to a power MOSFET switch. This signal appears on PWMOUT. In normal systems,PWM-OUT can be directly connected to the gate of an N-channel power MOSFET such as the (See Datasheet)", 20 GND (power) "Ground for all functions is through this pin.", 21 OSC "The fixed frequency PWM in the UCC3305 operates at the frequency programmed by the OSC pin.Typically, a a 200pF capacitor from OSC to GND programs the PWM frequency at 100kHz. In addition, this programs the charge pump at (See Datasheet)", 22 DIVPAUSE (in) "The QOUT and Q\O\U\T\ outputs can be used to switch lamp polarity in an AC ballast. It is important to stop polarity switching when the lamp is being lit, so that the arc across the electrodes can form in the correct place. (See Datasheet)", 23 ISENSEIN (in) "The power regulating algorithm in the UCC3305 HID Controller computes a function of lamp current and lamp voltage and commands the appropriate battery current to keep lamp power constant. This appropriate battery current is (See Datasheet)", 24 BAT (in) "This input is used to detect excessively high input voltage and shut down the IC if the input exceeds a predetermined level. Connect BAT to a voltage divider across the input supply. The UCC3305 shuts down when this input (See Datasheet)", 25 NC, 26 COMP "Differences between commanded lamp power and desired lamp power are amplified by an error amplifier.This amplifier senses the difference between the voltage at FB and 2.5V, and drives COMP with an amplified error voltage. A (See Datasheet)", 27 FB (in) "Differences between commanded lamp power and desired lamp power are amplified by an error amplifier.This amplifier senses the difference between the voltage at FB and 2.5V, and drives COMP with an amplified error voltage.", 28 5VREF (out) "Circuitry in the UCC3305 uses the internal 5V reference to set currents and thresholds. This reference can also be used for other functions if required."

## UCC2305N
designator U?
HID Lamp Controller, 5 to 18 V, -40 to 85 degC, 28-pin DIP (N28), Green (RoHS & no Sb/Br); Manufacturer: Texas Instruments; PartNumber: UCC2305N; Control Topology: Boost, Flyback; Frequency(Max)(kHz): 200; Open Lamp Detect: TRUE; Rating: Catalog; Vin(Max)(V): 18; Vin(Min)(V): 5; DatasheetVersion: SLUS297B; PackageVersion: 4040053/B; PackageReference: N28; PackageDescription: 28-Pin Plastic In-Line, Body 36.32 x 13.715 mm, Pitch 2.54 mm; Supplier 1: Digi-Key; Supplier Part Number 1: 296-13633-5-ND; Supplier 2: Newark; Supplier Part Number 2: 99B2481; Supplier 3: Mouser; Supplier Part Number 3: 595-UCC2305N; Eco-Plan: Green (RoHS & no Sb/Br); SubFamily: HID Lamp Controller; Mounting Technology: Through Hole; Code_JEDEC: MS-011; ComponentLink1Description: Manufacturer URL; ComponentLink1URL: http://www.ti.com/; ComponentLink2Description: Datasheet; ComponentLink2URL: http://www.ti.com/general/docs/lit/getliterature.tsp?genericPartNumber=UCC2305&fileType=pdf; ComponentLink3Description: Package Specification; ComponentLink3URL: http://www.ti.com/litv/pdf/mpdi008
footprint TI-N28 (DIP, 28-Leads, Body 36.32x13.715 mm, Pitch 2.54 mm)
pins: 1 BYPASS "The UCC3305 compensates for lamp temperature changes by changing the voltage on the SLOPEC and WARMUPC capacitors. These voltages rise as the lamp warms up. An internal calculation determines what power should be applied to (See Datasheet)", 2 SLOPEC "To track lamp warm-up and cool down, two capacitors connected to the UCC3305 charge and discharge.One is connected to SLOPEC. The other is connected to WARMUPC. The capacitor connected to SLOPEC charges up to 5V with a rate (See Datasheet)", 3 WARMUPC (in) "In addition to the capacitor from SLOPEC to GND, lamp temperature is estimated by the voltage on a capacitor from WARMUPC to GND. This capacitor is charged by a 200nA current source to 4.2V and by a 100nA current source from (See Datasheet)", 4 NC, 5 LOADISENSE (in) "Just as ISENSEIN is normally connected to a current sense resistor which monitors battery current, LOADISENSE is normally connected to a resistor which monitors lamp current. Lamp current is then regulated by the controller (See Datasheet)", 6 WARMUPV (out) "The voltage on WARMUPC is used to modulate the signal fed to the error amplifier through FB. However, the impedance on WARMUPC is too high to be directly used. The UCC3305 contains a buffer amplifier which buffers the (See Datasheet)", 7 LPOWER (out) "LOADISENSE directly drives one input of an op amp in the UCC3305. This amplifier amplifies the difference between the desired load current and the actual load current, and generates an output signal on LPOWER which feeds the (See Datasheet)", 8 ADJ (in) "The ratio of cold lamp peak current to warmed-up lamp peak current is controlled by the voltage on ADJ. To select this voltage, connect a resistor from ADJ to GND.", 9 ~{QOUT} (out) "The UCC3305 is immediately configured for DC HID lamps. To operate with AC HID lamps, it is necessary to add a power H-bridge which will toggle lamp voltage. A practical switching frequency for this toggle function is the (See Datasheet)", 10 ISET (in) "Many functions inside the UCC3305 require precise currents to give well controlled performance. These controlled currents are programmed by a resistor from  ISET to GND. A resistor of 100k programs the IC to normal operating (See Datasheet)", 11 VOUTSENSE (in) "The VOUTSENSE input is used to sense lamp voltage, commonly through a 120:1 voltage divider. For a normal, running HID lamp, the voltage across the lamp is between 60V and 110V. It takes higher than 300V to break down the (See Datasheet)", 12 FLTC "The voltage on VOUTSENSE is proportional to lamp voltage. If that voltage is too high or too low, the lamp is either open, shorted, or not yet running. During normal operation, there is a capacitor connected to FLTC, and (See Datasheet)", 13 FLT (out) "If the voltage on the FLTC pin exceeds 5V, indicating a severe fault, then a latch in the UCC3305 sets and PWM drive is halted. In addition, the FLT output goes high to VCC, indicating a serious system fault.", 14 NOTON (out) "While the lamp is in a fault condition, such as excessively high or low lamp voltage, NOTON is pulled high to VCC, indicating that the arc is not yet correct. When the voltage on VOUTSENSE is within the 83mV to 2V window, (See Datasheet)", 15 QOUT (out) "The QOUT pin is a logic output which toggles at the OSC frequency divided by 512, 180 degrees out of phase with the Q\O\U\T\ pin.", 16 VCC (power) "Supply Voltage", 17 PUMPOUT (out) "Although the UCC3305 is powered from the VCC input, most functions of the device operate from a supply voltage of approximately 10V connected to BOOST. In normal operation, this 10V supply is generated by a voltage doubler (See Datasheet)", 18 BOOST (power) "Although the UCC3305 is powered from the VCC input, most functions of the device operate from a supply voltage of approximately 10V connected to BOOST. This 10V supply can be generated by a voltage doubler using PUMPOUT as (See Datasheet)", 19 PWMOUT (out) "The output of the pulse width modulator is a command signal to a power MOSFET switch. This signal appears on PWMOUT. In normal systems,PWM-OUT can be directly connected to the gate of an N-channel power MOSFET such as the (See Datasheet)", 20 GND (power) "Ground for all functions is through this pin.", 21 OSC "The fixed frequency PWM in the UCC3305 operates at the frequency programmed by the OSC pin.Typically, a a 200pF capacitor from OSC to GND programs the PWM frequency at 100kHz. In addition, this programs the charge pump at (See Datasheet)", 22 DIVPAUSE (in) "The QOUT and Q\O\U\T\ outputs can be used to switch lamp polarity in an AC ballast. It is important to stop polarity switching when the lamp is being lit, so that the arc across the electrodes can form in the correct place. (See Datasheet)", 23 ISENSEIN (in) "The power regulating algorithm in the UCC3305 HID Controller computes a function of lamp current and lamp voltage and commands the appropriate battery current to keep lamp power constant. This appropriate battery current is (See Datasheet)", 24 BAT (in) "This input is used to detect excessively high input voltage and shut down the IC if the input exceeds a predetermined level. Connect BAT to a voltage divider across the input supply. The UCC3305 shuts down when this input (See Datasheet)", 25 NC, 26 COMP "Differences between commanded lamp power and desired lamp power are amplified by an error amplifier.This amplifier senses the difference between the voltage at FB and 2.5V, and drives COMP with an amplified error voltage. A (See Datasheet)", 27 FB (in) "Differences between commanded lamp power and desired lamp power are amplified by an error amplifier.This amplifier senses the difference between the voltage at FB and 2.5V, and drives COMP with an amplified error voltage.", 28 5VREF (out) "Circuitry in the UCC3305 uses the internal 5V reference to set currents and thresholds. This reference can also be used for other functions if required."